# Altium footprint library 1888811-1.PcbLib: 1 footprints
Each footprint in its own frame and in the unit in brackets; x right, y up, seen from the top. Pads: shape width x height; smd on the part's side, far side on the other; paste and mask are expansions set on the pad; w line width, h text height; cw(c..) or ccw(c..) is an arc to the next point about the centre after c.
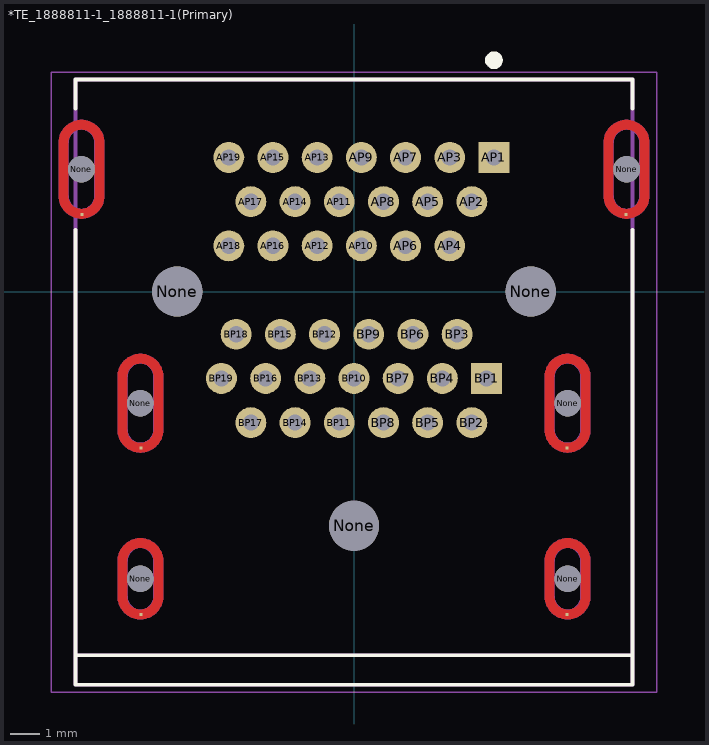
[diagram p0: the footprint, top view; thin cyan lines are the x and y axes]

## *TE_1888811-1_1888811-1(Primary) [mm]
pads (53):
  rect 1.05x1.05 hole 0.55: AP1(4.75,4.55) BP1(4.5,-2.95)
  round 1.05 hole 0.55: AP2(4,3.05) AP3(3.25,4.55) AP4(3.25,1.55) AP5(2.5,3.05) AP6(1.75,1.55) AP7(1.75,4.55) AP8(1,3.05) AP9(0.25,4.55) AP10(0.25,1.55) AP11(-0.5,3.05) AP12(-1.25,1.55) AP13(-1.25,4.55) AP14(-2,3.05) AP15(-2.75,4.55) AP16(-2.75,1.55) AP17(-3.5,3.05) AP18(-4.25,1.55) AP19(-4.25,4.55) BP2(4,-4.45) BP3(3.5,-1.45) BP4(3,-2.95) BP5(2.5,-4.45) BP6(2,-1.45) BP7(1.5,-2.95) BP8(1,-4.45) BP9(0.5,-1.45) BP10(0,-2.95) BP11(-0.5,-4.45) BP12(-1,-1.45) BP13(-1.5,-2.95) BP14(-2,-4.45) BP15(-2.5,-1.45) BP16(-3,-2.95) BP17(-3.5,-4.45) BP18(-4,-1.45) BP19(-4.5,-2.95)
  round 0.9 hole 0.9 unplated: None(-9.25,4.15) None(-7.25,-9.75) None(-7.25,-3.79) None(7.25,-9.75) None(7.25,-3.79) None(9.25,4.15)
  round 1.7 hole 1.7 unplated: None(-6,0) None(0,-7.95) None(6,0)
  rect 0.1x0.1 smd: SH1(-9.23,2.61) SH2(9.23,2.61) SH3(7.23,-5.31) SH4(-7.23,-5.31) SH5(-7.23,-10.96) SH6(7.23,-10.96)
Top Layer:
  drawing of 12 lines, arcs and shapes, not listed
Bottom Layer:
  drawing of 12 lines, arcs and shapes, not listed
Top Overlay:
  circle w0.3: c4.75,7.85 r0.15
  lines w0.127: -9.45,2.1 -9.45,-12.35 ; -9.45,6.2 -9.45,7.2 9.45,7.2 9.45,6.2 ; 9.45,2.1 9.45,-12.35 ; -9.45,-12.35 9.45,-12.35 ; -9.45,-12.35 -9.45,-13.35 9.45,-13.35 9.45,-12.35
Top Paste:
  drawing of 12 lines, arcs and shapes, not listed
Bottom Paste:
  drawing of 12 lines, arcs and shapes, not listed
Top Solder:
  drawing of 12 lines, arcs and shapes, not listed
Bottom Solder:
  drawing of 12 lines, arcs and shapes, not listed
Mechanical 1:
  lines w0: -9.7,3.25 ccw(c-9.25,3.25) -9.25,2.8 ccw(c-9.25,3.25) -8.8,3.25 -8.8,5.05 ccw(c-9.25,5.05) -9.25,5.5 ccw(c-9.25,5.05) -9.7,5.05 -9.7,3.25 ; -7.7,-10.35 ccw(c-7.25,-10.35) -7.25,-10.8 ccw(c-7.25,-10.35) -6.8,-10.35 -6.8,-9.15 ccw(c-7.25,-9.15) -7.25,-8.7 ccw(c-7.25,-9.15) -7.7,-9.15 -7.7,-10.35 ; -7.7,-4.69 ccw(c-7.25,-4.69) -7.25,-5.14 ccw(c-7.25,-4.69) -6.8,-4.69 -6.8,-2.89 ccw(c-7.25,-2.89) -7.25,-2.44 ccw(c-7.25,-2.89) -7.7,-2.89 -7.7,-4.69 ; 6.8,-10.35 ccw(c7.25,-10.35) 7.25,-10.8 ccw(c7.25,-10.35) 7.7,-10.35 7.7,-9.15 ccw(c7.25,-9.15) 7.25,-8.7 ccw(c7.25,-9.15) 6.8,-9.15 6.8,-10.35 ; 6.8,-4.69 ccw(c7.25,-4.69) 7.25,-5.14 ccw(c7.25,-4.69) 7.7,-4.69 7.7,-2.89 ccw(c7.25,-2.89) 7.25,-2.44 ccw(c7.25,-2.89) 6.8,-2.89 6.8,-4.69 ; 8.8,3.25 ccw(c9.25,3.25) 9.25,2.8 ccw(c9.25,3.25) 9.7,3.25 9.7,5.05 ccw(c9.25,5.05) 9.25,5.5 ccw(c9.25,5.05) 8.8,5.05 8.8,3.25
Mechanical 13:
  circle w0.3: c4.75,4.55 r0.15
  circle w0.3: c4.75,4.55 r0.15
  lines w0.127: -9.45,-13.35 9.45,-13.35 ; -9.45,-13.35 -9.45,-12.35 ; -9.45,-13.35 9.45,-13.35 ; -9.45,-13.35 -9.45,-12.35 ; -9.45,-12.35 9.45,-12.35 ; -9.45,-12.35 -9.45,7.2 ; -9.45,-12.35 9.45,-12.35 ; -9.45,-12.35 -9.45,7.2 ; -9.45,7.2 9.45,7.2 ; -9.45,7.2 9.45,7.2 ; 9.45,-13.35 9.45,-12.35 ; 9.45,-13.35 9.45,-12.35 ; 9.45,-12.35 9.45,7.2 ; 9.45,-12.35 9.45,7.2
  text "PCB EDGE" at -9.323,-12.481 h1.88
  text "PCB EDGE" at -9.323,-12.481 h1.88
Mechanical 15:
  lines w0.05: -10.275,-13.6 -10.275,7.45 10.275,7.45 10.275,-13.6 -10.275,-13.6